# Altium footprint library PCB_LIB_JD.PcbLib: 11 footprints
Each footprint in its own frame and in the unit in brackets; x right, y up, seen from the top. Pads: shape width x height; smd on the part's side, far side on the other; paste and mask are expansions set on the pad; w line width, h text height; cw(c..) or ccw(c..) is an arc to the next point about the centre after c.
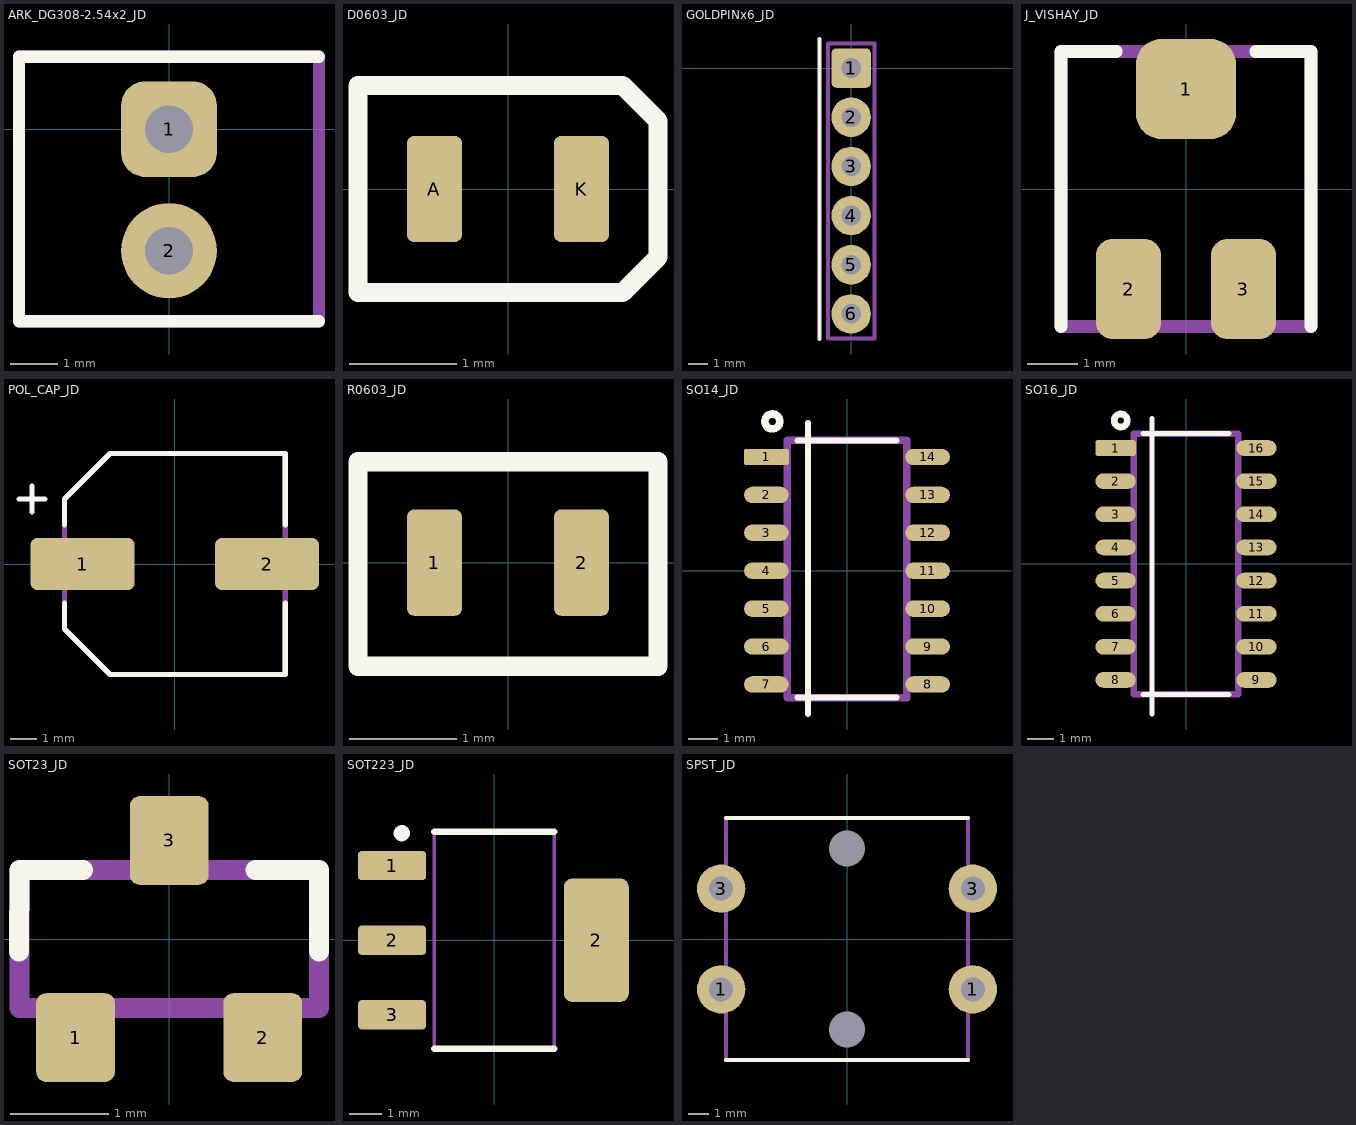
[diagram p0: the footprints below, top view; thin cyan lines are the x and y axes]

## ARK_DG308-2.54x2_JD [mm]
height 6.27
pads (2):
  rrect50% 2x2 hole 1: 1(0,0)
  round 2 hole 1: 2(0,-2.54)
Top Overlay:
  lines w0.254: 3.135,-4.015 -3.135,-4.015 -3.135,1.515 3.135,1.515
Mechanical 13:
  lines w0.254: -3.135,-4.015 3.135,-4.015 3.135,1.515 -3.135,1.515 -3.135,-4.015
3D body: height 8.5, standoff 0, extent -3.135,-4.015 3.135,1.515

## D0603_JD [mm]
height 0.75
pads (2):
  rrect25% 0.51x0.99 smd: A(-0.685,0) K(0.685,0)
Top Overlay:
  lines w0.178: -1.397,-0.965 1.067,-0.965 1.397,-0.635 1.397,0.635 1.067,0.965 -1.397,0.965 -1.397,-0.965
3D body: height 0.75, standoff 0, extent -0.825,-0.45 0.825,0.45

## GOLDPINx6_JD [mm]
pads (6):
  rrect25% 2.04x2.04 hole 1.02: 1(0,0)
  round 2.04 hole 1.02: 2(0,-2.54) 3(0,-5.08) 4(0,-7.62) 5(0,-10.16) 6(0,-12.7)
Top Overlay:
  lines w0.2: -1.627,-14 -1.627,1.5
Mechanical 13:
  lines w0.2: -1.2,-13.97 -1.2,1.27 1.2,1.27 1.2,-13.97 -1.2,-13.97
3D body "90120-0926.stp": height 9.26, standoff -2.85, extent -1.25,-13.97 1.25,1.27

## J_VISHAY_JD [mm]
pads (3):
  rrect50% 2x2 smd: 1(0,2)
  rrect50% 1.3x2 smd: 2(-1.15,-2) 3(1.15,-2)
Top Overlay:
  lines w0.254: -2.5,-2.75 -2.5,2.75 -1.397,2.75 ; 1.397,2.75 2.5,2.75 2.5,-2.75
Mechanical 13:
  lines w0.254: -2.5,-2.75 2.5,-2.75 2.5,2.75 -2.5,2.75 -2.5,-2.75
3D body: height 2.7, standoff 0.2, extent -2.475,-2.75 2.5,2.75

## POL_CAP_JD [mm]
height 10.8
pads (2):
  rrect25% 4x2 smd: 1(-3.55,0) 2(3.55,0)
Top Overlay:
  lines w0.2: -6,2.5 -5,2.5 ; -5.5,2 -5.5,3 ; -4.25,-1.5 -4.25,-2.5 -2.5,-4.25 4.25,-4.25 4.25,-1.5 ; -4.25,1.5 -4.25,2.5 -2.5,4.25 4.25,4.25 4.25,1.5
Mechanical 13:
  lines w0.2: -4.25,-2.5 -2.5,-4.25 4.25,-4.25 4.25,4.25 -2.5,4.25 -4.25,2.5 -4.25,-2.5
3D body: height 10.8, standoff 0, extent -4.25,-4.25 4.25,4.25

## R0603_JD [mm]
height 0.75
pads (2):
  rrect25% 0.51x0.99 smd: 1(-0.685,0) 2(0.685,0)
Top Overlay:
  lines w0.178: -1.397,-0.965 1.397,-0.965 1.397,0.94 -1.397,0.94 -1.397,-0.965
3D body: height 0.75, standoff 0, extent -0.825,-0.45 0.825,0.45

## SO14_JD [mm]
height 1.75
pads (14):
  rrect25% 1.5x0.55 smd: 1(-2.7,3.81)
  oval 1.5x0.55 smd: 2(-2.7,2.54) 3(-2.7,1.27) 4(-2.7,0) 5(-2.7,-1.27) 6(-2.7,-2.54) 7(-2.7,-3.81) 8(2.7,-3.81) 9(2.7,-2.54) 10(2.7,-1.27) 11(2.7,0) 12(2.7,1.27) 13(2.7,2.54) 14(2.7,3.81)
Top Overlay:
  circle w0.254: c-2.5,5 r0.25
  lines w0.2: -1.651,-4.245 1.651,-4.245 ; -1.651,4.37 1.651,4.37 ; -1.3,-4.8 -1.3,4.945
Mechanical 13:
  lines w0.254: -2,-4.25 -2,4.375 2,4.375 2,-4.25 -2,-4.25
3D body "CircuitWorks-SO-14 (PIC16F684).step": height 1.61, standoff 0.01, extent -2.995,-4.345 2.995,4.345

## SO16_JD [mm]
height 1.75
pads (16):
  rrect25% 1.55x0.6 smd: 1(-2.7,4.445)
  oval 1.55x0.6 smd: 2(-2.7,3.175) 3(-2.7,1.905) 4(-2.7,0.635) 5(-2.7,-0.635) 6(-2.7,-1.905) 7(-2.7,-3.175) 8(-2.7,-4.445) 9(2.7,-4.445) 10(2.7,-3.175) 11(2.7,-1.905) 12(2.7,-0.635) 13(2.7,0.635) 14(2.7,1.905) 15(2.7,3.175) 16(2.7,4.445)
Top Overlay:
  circle w0.254: c-2.5,5.5 r0.25
  lines w0.2: -1.651,-5.005 1.651,-5.005 ; -1.651,5.005 1.651,5.005 ; -1.3,-5.75 -1.3,5.58
Mechanical 13:
  lines w0.254: -2,-5 -2,5 2,5 2,-5 -2,-5
3D body "CircuitWorks-SO-16.step": height 1.46, standoff 0.01, extent -3,-4.991 2.905,4.991

## SOT23_JD [mm]
height 1.11
pads (3):
  rrect25% 0.8x0.9 smd: 1(-0.95,-1) 2(0.95,-1) 3(0,1)
Top Overlay:
  lines w0.2: -1.524,-0.127 -1.52,0.7 -0.875,0.7 ; 0.875,0.7 1.52,0.7 1.52,-0.127
Mechanical 13:
  lines w0.2: -1.52,-0.7 -1.52,0.7 1.52,0.7 1.52,-0.7 -1.52,-0.7
3D body "CircuitWorks-SOT-23.step": height 1.11, standoff 0.01, extent -1.5,-1.225 1.5,1.275

## SOT223_JD [mm] "SOT223, 4-Leads, Body 6.5x3.5mm, Pitch 2.3mm, Lead Span 7mm, IPC High Density"
height 1.8
pads (4):
  rrect25% 2.1x0.9 smd: 1(-3.15,2.3) 2(-3.15,0) 3(-3.15,-2.3)
  rrect25% 2x3.8 smd: 2(3.15,0)
Top Overlay:
  circle w0.25: c-2.85,3.3 r0.125
  lines w0.2: -1.85,-3.35 1.85,-3.35 ; -1.85,3.35 1.85,3.35
Mechanical 13:
  lines w0.1: -1.85,-3.35 -1.85,3.35 1.85,3.35 1.85,-3.35 -1.85,-3.35
3D body: height 1.8, standoff 0.35, extent -1.85,-3.35 1.85,3.35

## SPST_JD [mm]
height 7.3
pads (6):
  round 2.4 hole 1.2: 1(-6.25,-2.5) 1(6.25,-2.5) 3(-6.25,2.5) 3(6.25,2.5)
  round 0 hole 1.8 unplated: 5(0,4.5) 6(0,-4.5)
Top Overlay:
  lines w0.2: -6,-6 6,-6 ; -6,6 6,6
Mechanical 13:
  lines w0.2: -6,-6 -6,6 6,6 6,-6 -6,-6
3D body: height 7.3, standoff 0, extent -6,-6 6,6